# EAGLE library part DAC8830 (library joakim)
Texas instruments DAC8830 Datasheet <http://www.ti.com/lit/ds/symlink/dac8830.pdf> - Product page <http://www.ti.com/product/dac8830> 16-Bit SPI DAC, unbuffered
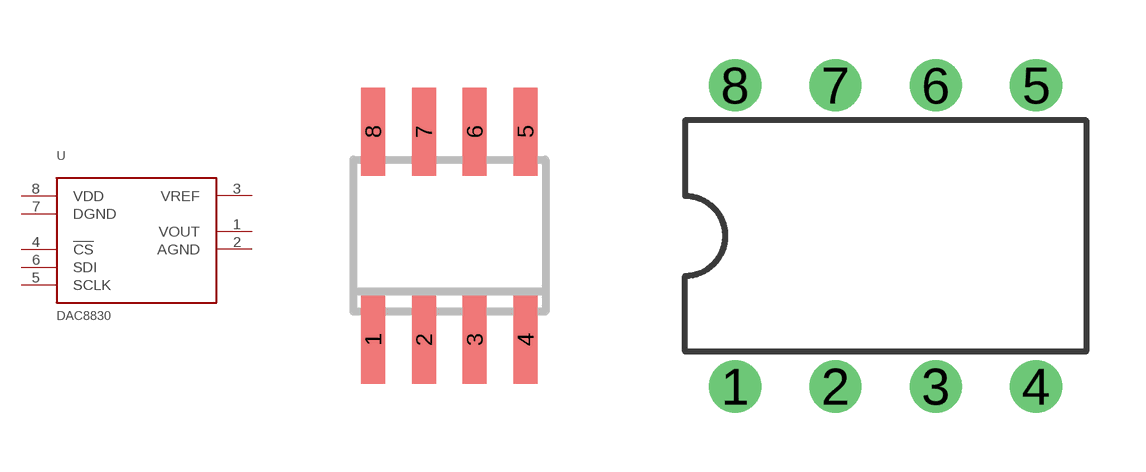
[diagram p47: symbol with the pads of SO08J; footprints SO08J, DIL08J]

Designator prefix -

## DAC8830S  [SO08J]
1  VOUT
2  AGND  pwr
3  VREF
4  !CS  in
5  SCLK  in
6  SDI  in
7  DGND  pwr
8  VDD  pwr

## DAC8830  [DIL08J]
Pads as for SO08J

## Footprint SO08J (pad centres in mm)
Small Outline Package 8 NS Package M08A
smd 0.6 x 2.2: 1 -1.905,-2.6; 2 -0.635,-2.6; 3 0.635,-2.6; 4 1.905,-2.6; 5 1.905,2.6; 6 0.635,2.6; 7 -0.635,2.6; 8 -1.905,2.6

## Footprint DIL08J (pad centres in mm)
Dual In Line Package
drill 0.813 pad 1.27: 1 -3.81,-3.81; 2 -1.27,-3.81; 3 1.27,-3.81; 4 3.81,-3.81; 5 3.81,3.81; 6 1.27,3.81; 7 -1.27,3.81; 8 -3.81,3.81